# EAGLE library part MOTOR_BLDC_BLO (library stepOSP)
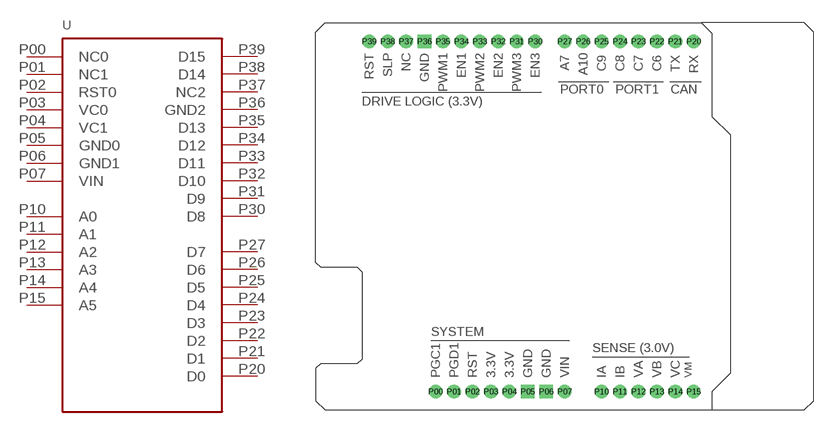
[diagram p5: symbol with the pads of MOTOR_BLDC_BLO; footprint MOTOR_BLDC_BLO]

Designator prefix -

## MOTOR_BLDC_BLO  [MOTOR_BLDC_BLO]
P00  NC0
P01  NC1
P02  RST0
P03  VC0
P04  VC1
P05  GND0
P06  GND1
P07  VIN
P10  A0
P11  A1
P12  A2
P13  A3
P14  A4
P15  A5
P20  D0
P21  D1
P22  D2
P23  D3
P24  D4
P25  D5
P26  D6
P27  D7
P30  D8
P31  D9
P32  D10
P33  D11
P34  D12
P35  D13
P36  GND2
P37  NC2
P38  D14
P39  D15

## Footprint MOTOR_BLDC_BLO (pad centres in mm)
drill 1.016 pad 1.88: P00 27.94,2.54; P01 30.48,2.54; P02 33.02,2.54; P03 35.56,2.54; P04 38.1,2.54; P07 45.72,2.54; P10 50.8,2.54; P11 53.34,2.54; P12 55.88,2.54; P13 58.42,2.54; P14 60.96,2.54; P15 63.5,2.54; P20 63.5,50.8; P21 60.96,50.8; P22 58.42,50.8; P23 55.88,50.8; P24 53.34,50.8; P25 50.8,50.8; P26 48.26,50.8; P27 45.72,50.8; P30 41.656,50.8; P31 39.116,50.8; P32 36.576,50.8; P33 34.036,50.8; P34 31.496,50.8; P35 28.956,50.8; P37 23.876,50.8; P38 21.336,50.8; P39 18.796,50.8
drill 1.016 pad 1.88 square: P05 40.64,2.54; P06 43.18,2.54; P36 26.416,50.8